# Altium footprint library via_ipc4761_type_matrix.PcbLib: 1 footprints
Each footprint in its own frame and in the unit in brackets; x right, y up, seen from the top. Pads: shape width x height; smd on the part's side, far side on the other; paste and mask are expansions set on the pad; w line width, h text height; cw(c..) or ccw(c..) is an arc to the next point about the centre after c.
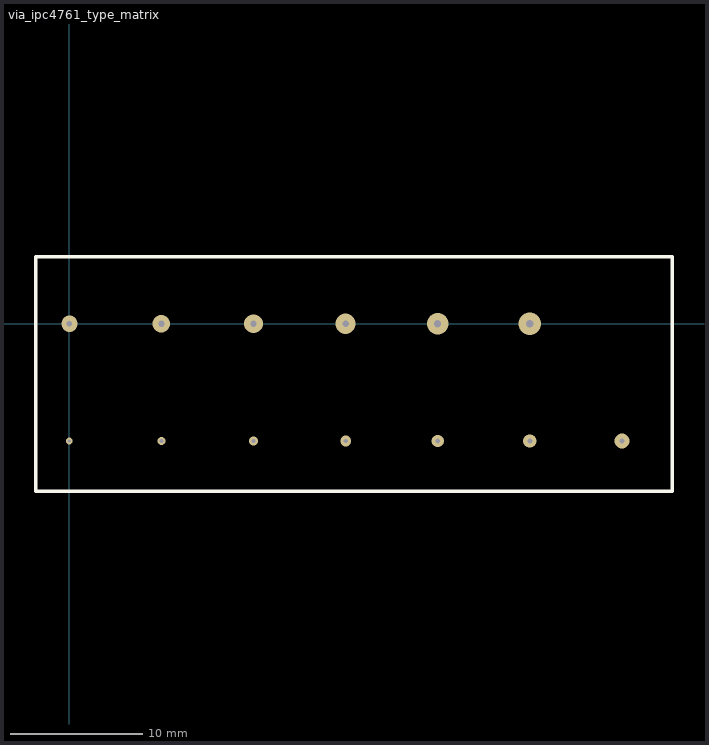
[diagram p0: the footprint, top view; thin cyan lines are the x and y axes]

## via_ipc4761_type_matrix [mm]
via 0,-8.89 diameter 0.508 hole 0.254
via 6.985,-8.89 diameter 0.61 hole 0.279
via 13.97,-8.89 diameter 0.711 hole 0.305
via 20.955,-8.89 diameter 0.813 hole 0.33
via 27.94,-8.89 diameter 0.914 hole 0.356
via 34.925,-8.89 diameter 1.016 hole 0.381
via 41.91,-8.89 diameter 1.118 hole 0.406
via 0,0 diameter 1.219 hole 0.432
via 6.985,0 diameter 1.321 hole 0.457
via 13.97,0 diameter 1.422 hole 0.483
via 20.955,0 diameter 1.524 hole 0.508
via 27.94,0 diameter 1.626 hole 0.533
via 34.925,0 diameter 1.727 hole 0.559
Mid-Layer 1:
  text "NONE" at -1.575,-7.112 h0.71
  text "1A TENT" at 5.41,-7.112 h0.71
  text "1B TENT" at 12.395,-7.112 h0.71
  text "2A T+C" at 19.38,-7.112 h0.71
  text "2B T+C" at 26.365,-7.112 h0.71
  text "3A PLUG" at 33.35,-7.112 h0.71
  text "3B PLUG" at 40.335,-7.112 h0.71
  text "4A P+C" at -1.575,1.778 h0.71
  text "4B P+C" at 5.41,1.778 h0.71
  text "5 FILL" at 12.395,1.778 h0.71
  text "6A F+C" at 19.38,1.778 h0.71
  text "6B F+C" at 26.365,1.778 h0.71
  text "7 F+C" at 33.35,1.778 h0.71
Top Overlay:
  lines w0.254: -2.54,-12.7 -2.54,5.08 45.72,5.08 45.72,-12.7 -2.54,-12.7